# Altium integrated library HTSW-116-23-L-S.IntLib: 1 symbol
Pins are listed as number, name and electrical type; pins without a type are passive.

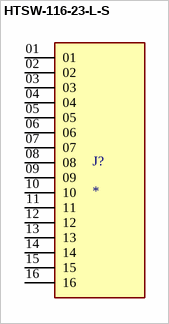
[diagram p0: symbol HTSW-116-23-L-S]

## HTSW-116-23-L-S
designator J?
MP: HTSW-116-23-L-S; Price: None; Availability: Unavailable; Value: *; Package: None
footprint SAMTEC_HTSW-116-23-L-S
pins: 01, 02, 03, 04, 05, 06, 07, 08, 09, 10, 11, 12, 13, 14, 15, 16